# Altium schematic symbol library ESDS314DBVR.SchLib: 1 symbol
Pins are listed as number, name and electrical type; pins without a type are passive.

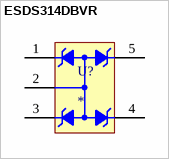
[diagram p0: symbol ESDS314DBVR]

## ESDS314DBVR
designator U?
Quad 4.5-pF, 3.6-V, ±30-kV ESD protection diode with 25-A 8/20-uS surge rating for USB and Ethernet
footprint SOT-23-5
pins: 1 I/O1, 2 GND, 3 I/O2, 4 I/O3, 5 I/O4